# Altium integrated library mainboard.IntLib: 39 symbols
Pins are listed as number, name and electrical type; pins without a type are passive.

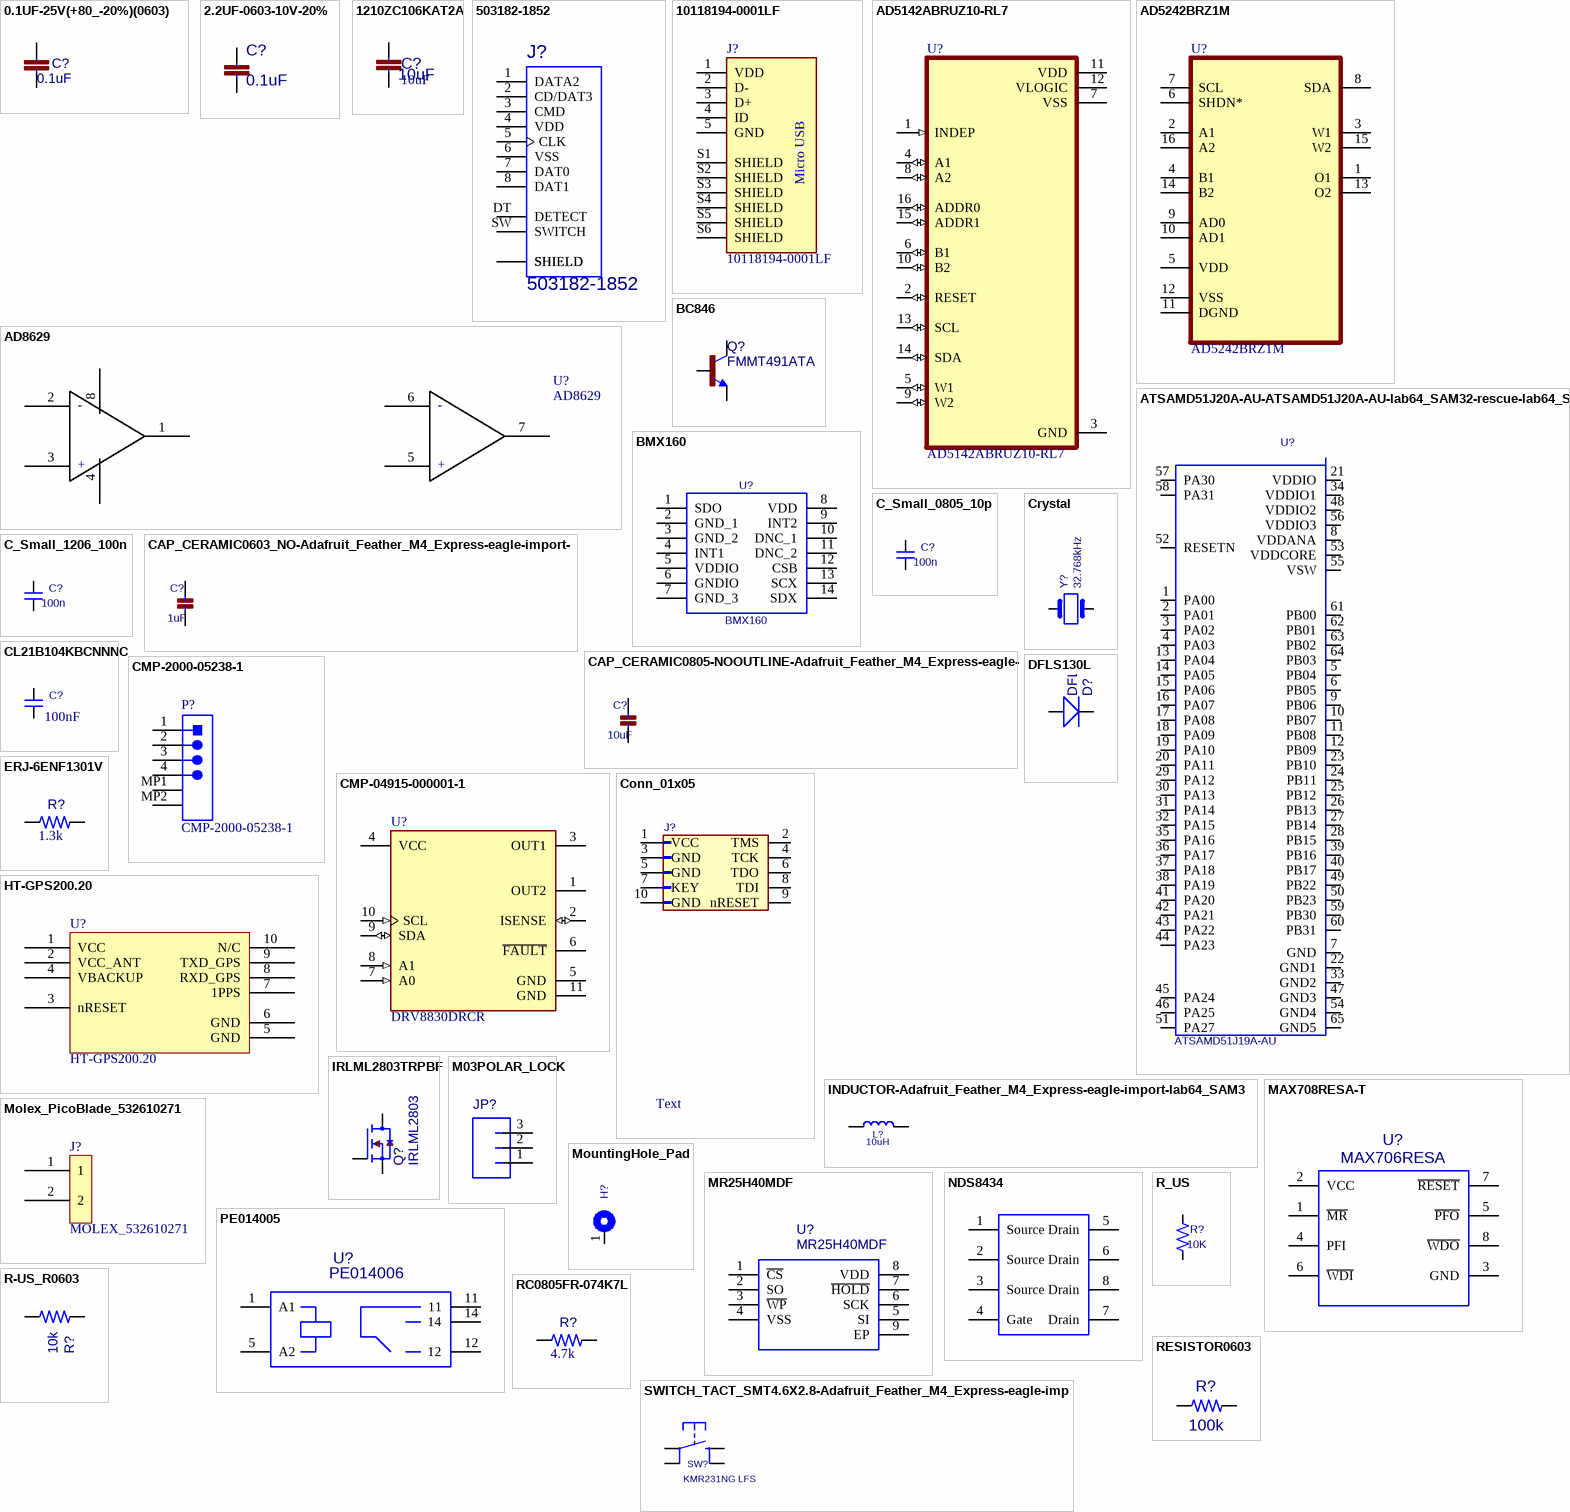
[diagram p0: symbols 0.1UF-25V(+80_-20%)(0603) to SWITCH_TACT_SMT4.6X2.8-Adafruit_Feather_M4_Express-eagle-import-lab64_SAM32-rescue-SAMD-10-rescue-SAM32-rescue]

## 0.1UF-25V(+80_-20%)(0603)
designator C?, comment 0.1uF
MPN: CL10B104KB8NNNL; Footprint: Capacitor_SMD:C_0603_1608Metric; Value: 0.1uF
footprint C_0603_1608Metric
pins: 1, 2

## 2.2UF-0603-10V-20%
designator C?, comment 0.1uF
MPN: CL10B104KO8NNNC; Value: 0.1uF; Footprint: Capacitor_SMD:C_0603_1608Metric
footprint C_0603_1608Metric
pins: 1, 2

## 1210ZC106KAT2A
designator C?, comment 10uF
MPN: 1210ZC106KAT2A; Footprint: Capacitor_SMD:C_0603_1608Metric; Value: 10uF
footprint C_0603_1608Metric
pins: 1, 2

## 503182-1852
designator J?
MPN: 5031821852; Value: 503182-1852; Footprint: mainboard:MOLEX_503182-1852
footprint MOLEX_503182-1852
pins: 1 DATA2, 2 CD/DAT3, 3 CMD, 4 VDD, 5 CLK, 6 VSS, 7 DAT0, 8 DAT1, DT DETECT, P1 SHIELD, P2 SHIELD, P3 SHIELD, P4 SHIELD, P5 SHIELD, SW SWITCH

## 10118194-0001LF
designator J?
Micro Usb, 2.0 Type b, Rcpt, Smt; Price: None; MPN: 10118194-0001LF; Availability: Unavailable; Value: *; Package: None
footprint AMPHENOL_10118194-0001LF
pins: 1 VDD, 2 D-, 3 D+, 4 ID, 5 GND, S1 SHIELD, S2 SHIELD, S3 SHIELD, S4 SHIELD, S5 SHIELD, S6 SHIELD
text: Micro USB

## AD5142ABRUZ10-RL7
designator U?
Digital Potentiometer 10kOhm 256POS Non-Volatile Linear/Log 16-Pin TSSOP T/R; MF: Analog Devices; Availability: In Stock; SnapEDA_Link: https://www.snapeda.com/parts/AD5142ABRUZ10-RL7/Analog+Devices/view-part/?ref=snap; Price: None; Package: TSSOP-16 Analog Devices; Value: *; Purchase-URL: https://pricing.snapeda.com/search/part/AD5142ABRUZ10-RL7/?ref=eda; Check_prices: https://www.snapeda.com/parts/AD5142ABRUZ10-RL7/Analog+Devices/view-part/?ref=eda; MPN: AD5142ABRUZ10-RL7
footprint SOP65P640X120-16N
pins: 1 INDEP (in), 2 RESET (io), 3 GND (power), 4 A1 (io), 5 W1 (io), 6 B1 (io), 7 VSS (power), 8 A2 (io), 9 W2 (io), 10 B2 (io), 11 VDD (power), 12 VLOGIC (power), 13 SCL (io), 14 SDA (io), 15 ADDR1 (io), 16 ADDR0 (io)

## AD5242BRZ1M
designator U?
Digital Potentiometer 1M Ohm 2 Circuit 256 Taps IÂ²C Interface 16-SOIC; MF: Analog Devices; Value: *; Digi-Key_Part_Number: AD5242BRZ1M-ND; Check_prices: https://www.snapeda.com/parts/AD5242BRZ1M/Analog+Devices+Inc./view-part/?ref=eda; Package: SOIC-16 Analog Devices; SnapEDA_Link: https://www.snapeda.com/parts/AD5242BRZ1M/Analog+Devices+Inc./view-part/?ref=snap; Purchase-URL: https://pricing.snapeda.com/search/part/AD5242BRZ1M/?ref=eda; MPN: AD5242BRZ1M
footprint SOIC127P600X175-16N
pins: 1 O1, 2 A1, 3 W1, 4 B1, 5 VDD (power), 6 SHDN*, 7 SCL, 8 SDA, 9 AD0, 10 AD1, 11 DGND, 12 VSS (power), 13 O2, 14 B2, 15 W2, 16 A2

## AD8629
designator U?
MPN: AD8629ARZ
footprint soic-8
pins: 1, 2, 3, 4, 5, 6, 7, 8
text: -; +

## ATSAMD51J20A-AU-ATSAMD51J20A-AU-lab64_SAM32-rescue-lab64_SAM32-rescue-SAMD-10-rescue-SAM32-rescue
designator U?, comment Proto: ATSAMD51J19A-AU  (hidden comment: 120MHZ 512KB Flash 64 TQFP)
Field4: 120MHZ 512KB Flash 64 TQFP PKG inTray 85CTemp, 64 TQFP 10x10x1mm TRAY; Field5: TQFP-64 Microchip; Value: 120MHZ 512KB Flash 64 TQFP; Footprint: custom-footprints:QFP50P1200X1200X120-64N; MPN: ATSAMD51J19A-AU
footprint QFP50P1200X1200X120-64N
footprint ATSAMD51J19A-MU
pins: 1 PA00, 2 PA01, 3 PA02, 4 PA03, 5 PB04, 6 PB05, 7 GND, 8 VDDANA, 9 PB06, 10 PB07, 11 PB08, 12 PB09, 13 PA04, 14 PA05, 15 PA06, 16 PA07, 17 PA08, 18 PA09, 19 PA10, 20 PA11, 21 VDDIO, 22 GND1, 23 PB10, 24 PB11, 25 PB12, 26 PB13, 27 PB14, 28 PB15, 29 PA12, 30 PA13, 31 PA14, 32 PA15, 33 GND2, 34 VDDIO1, 35 PA16, 36 PA17, 37 PA18, 38 PA19, 39 PB16, 40 PB17, 41 PA20, 42 PA21, 43 PA22, 44 PA23, 45 PA24, 46 PA25, 47 GND3, 48 VDDIO2, 49 PB22, 50 PB23, 51 PA27, 52 RESETN, 53 VDDCORE, 54 GND4, 55 VSW, 56 VDDIO3, 57 PA30, 58 PA31, 59 PB30, 60 PB31, 61 PB00, 62 PB01, 63 PB02, 64 PB03, 65 GND5

## BC846
designator Q?, comment FMMT491ATA
Proto: S8050; Value: FMMT491ATA; Footprint: mainboard:SOT23; MPN: FMMT491ATA
footprint SOT23
pins: 1 B, 2 E, 3 C

## BMX160
designator U?
Proto: BMX160; Value: BMX160; Footprint: custom-footprints:BMX160; MPN: BMX160
footprint BMX160
pins: 1 SDO, 2 GND_1, 3 GND_2, 4 INT1, 5 VDDIO, 6 GNDIO, 7 GND_3, 8 VDD, 9 INT2, 10 DNC_1, 11 DNC_2, 12 CSB, 13 SCX, 14 SDX

## C_Small_0805_10p
designator C?, comment value 100n  (hidden comment: 10p)
MPN: C0805C100J5GACTU; Footprint: Capacitor_SMD:C_0603_1608Metric; Supplier 1: Arrow Electronics; Supplier Part Number 1: C0805C100J5GACTU
footprint Resistor_0805
pins: 1, 2

## C_Small_1206_100n
designator C?, comment 100n
MPN: GRM31C5C1E104JA01L; Footprint: Capacitor_SMD:C_0603_1608Metric; Supplier 1: Arrow Electronics; Value: 100n; Supplier Part Number 1: GRM31C5C1E104JA01L
footprint Capacitor_1206
pins: 1, 2

## CAP_CERAMIC0603_NO-Adafruit_Feather_M4_Express-eagle-import-lab64_SAM32-rescue-SAMD-10-rescue-SAM32-rescue
designator C?, comment 1uF
MPN: CL10A105KB8NNNC; Value: 1uF; Footprint: Capacitor_SMD:C_0603_1608Metric
footprint C_0603_1608Metric
pins: 1, 2

## CAP_CERAMIC0805-NOOUTLINE-Adafruit_Feather_M4_Express-eagle-import-lab64_SAM32-rescue-SAMD-10-rescue-SAM32-rescue
designator C?, comment 10uF
MPN: CL10A106MP8NNNC; Value: 10uF; Footprint: Capacitor_SMD:C_0603_1608Metric
footprint C_0603_1608Metric
pins: 1, 2

## CL21B104KBCNNNC
designator C?, comment 100nF
MPN: CL21B104KBCNNNC
footprint Resistor_0805
pins: 1, 2

## CMP-2000-05238-1
designator P?
Male Header, Pitch 1.25 mm, 1 x 4 Position, Height 3.4 mm, -40 to 85 degC, RoHS, Tape and Reel; MPN: 0533984004; Manufacturer: Molex; Manufacturer Part Number: 53261-0471; Supplier 1: Digi-Key
footprint MOLEX-53261-0471_V (SMD, 4-Leads, Body 10.15x5.2mm, Pitch 1.25mm)
pins: 1, 2, 3, 4, MP1, MP2

## CMP-04915-000001-1
designator U?, comment DRV8830DRCR
IC MTRDRV BIPLR 2.75-6.8V 10VSON; Manufacturer: Texas Instruments; Switching Frequency: 44.5kHz; Standoff Height: 0mm; Nominal Supply Current: 1.4mA; Max Junction Temp: +150°C; Number Of Outputs: 1; Min Supply Voltage: 2.75V; Motor Type: Brushed; Max Supply Voltage: 6.8V; Output Current: 1A; Automotive: No; Temperature: -40°C to +85°C; ComponentLink2Description: Datasheet; Package: DRC0010J; Octopart: https://octopart.com/drv8830drcr-texas+instruments-21221812; Device Class L3: Motor Drivers; Height: 1mm; Lead Free: Yes; Device Class L2: Power Management ICs; Mouser Description: 1A Low Voltage Brushed DC Motor Driver with Speed Regulation (I2C Ctrl) 10-VSON -40 to 85; MPN: DRV8830DRCR; Temperature Range High: +85°C; ComponentLink2URL: http://www.ti.com/lit/ds/symlink/drv8830.pdf; Category: IC; RoHS: TRUE; Device Class L1: Integrated Circuits (ICs); Digikey Description: IC MTRDRV BIPLR 2.75-6.8V 10VSON; Temperature Range Low: -40°C; Manufacturer Part Number: DRV8830DRCR
footprint FP-DRC0010J-MFG
pins: 1 OUT2 (power), 2 ISENSE (io), 3 OUT1 (power), 4 VCC (power), 5 GND (power), 6 ~{FAULT} (oc), 7 A0 (in), 8 A1 (in), 9 SDA (io), 10 SCL (in), 11 GND (power)

## Conn_01x05
designator J?  (value not drawn)  (no BOM)
Value: Conn_01x05; Footprint: Connector_PinHeader_2.54mm:PinHeader_1x05_P2.54mm_Vertical
footprint PinHeader_1x05_P2.54mm_Vertical
pins: 1 VCC, 2 TMS, 3 GND, 4 TCK, 5 GND, 6 TDO, 7 KEY, 8 TDI, 9 nRESET, 10 GND
text: Text

## Crystal
designator Y?, comment 32.768kHz
Proto: ABS07-32.768KHZ-T; Value: 32.768kHz; Footprint: Crystal:Crystal_SMD_3215-2Pin_3.2x1.5mm; MPN: ABS07-32.768KHZ-T
footprint Crystal_SMD_3215-2Pin_3.2x1.5mm
pins: 1, 2

## DFLS130L
designator D?, comment value DFLS130L  (hidden comment: SBR2A40P1Q-7)
Proto: DFLS130L; Footprint: mainboard:PWRDI-123; MPN: DFLS130L
footprint PWRDI-123
pins: A, C

## ERJ-6ENF1301V
designator R?, comment 1.3k
MPN: ERJ-6ENF1301V
footprint L_0805_2012Metric_Pad1.15x1.40mm_HandSolder
pins: 1, 2

## HT-GPS200.20
designator U?
HT-GPS200.20 GNSS module
footprint HT-GPS200.20 (Footprint not found)
pins: 1 VCC, 2 VCC_ANT, 3 nRESET, 4 VBACKUP, 5 GND, 6 GND, 7 1PPS, 8 RXD_GPS, 9 TXD_GPS, 10 N/C

## INDUCTOR-Adafruit_Feather_M4_Express-eagle-import-lab64_SAM32-rescue-SAMD-10-rescue-SAM32-rescue
designator L?, comment 10uH
MPN: LBR2012T100K; Value: 10uH; Footprint: Inductor_SMD:L_0805_2012Metric_Pad1.15x1.40mm_HandSolder
footprint L_0805_2012Metric_Pad1.15x1.40mm_HandSolder
pins: 1, 2

## IRLML2803TRPBF
designator Q?, comment IRLML2803
Proto: 2302; Value: IRLML2803; Footprint: mainboard:SOT-23; MPN: IRLML2803
footprint SOT-23
pins: 1 G, 2 S, 3 D

## M03POLAR_LOCK
designator JP?, comment Conn_01x03  (value not drawn)
Value: Conn_01x03; Footprint: mainboard:MOLEX-1X3_LOCK
footprint MOLEX-1X3_LOCK
pins: 1, 2, 3

## MAX708RESA-T
designator U?, comment MAX706RESA
Proto: MAX706RESA; Value: MAX706RESA; Footprint: Package_SO:SO-8_3.9x4.9mm_P1.27mm; MPN: MAX706RESA
footprint SO-8_3.9x4.9mm_P1.27mm
pins: 1 ~{MR}, 2 VCC, 3 GND, 4 PFI, 5 ~{PFO}, 6 ~{WDI}, 7 ~{RESET}, 8 ~{WDO}

## Molex_PicoBlade_532610271
designator J?, comment MOLEX_532610271
MPN: 532610271
footprint Molex_PicoBlade_532610271
pins: 1, 2

## MountingHole_Pad
designator H?  (value not drawn)  (no BOM)
Value: MountingHole_Pad; Footprint: MountingHole:MountingHole_3.2mm_M3_DIN965_Pad
footprint MountingHole_3.2mm_M3_DIN965_Pad
pins: 1

## MR25H40MDF
designator U?
Proto: W25Q80DVSNIG; Value: MR25H40MDF; Footprint: mainboard:SON127P600X500X90-9N; MPN: MR25H40MDF
footprint SON127P600X500X90-9N
pins: 1 ~{CS}, 2 SO, 3 ~{WP}, 4 VSS, 5 SI, 6 SCK, 7 ~{HOLD}, 8 VDD, 9 EP

## NDS8434
designator U?  (value not drawn)
MPN: IRF7404TRPBF; Proto: DMP2022LSS-13; Value: NDS8434; Footprint: custom-footprints:NDS8434
footprint NDS8434
pins: 1 Source, 2 Source, 3 Source, 4 Gate, 5 Drain, 6 Drain, 7 Drain, 8 Drain

## PE014005
designator U?, comment PE014006
MPN: PE014006 TE; Proto: JE-109D GOODSKY; Value: PE014006; Footprint: mainboard:RELAY5-PE_CO
footprint RELAY5-PE_CO
pins: 1 A1, 5 A2, 11, 12, 14

## R-US_R0603
designator R?, comment 10k
MPN: RNCP0603FTD10K0; Value: 10k; Footprint: Resistor_SMD:R_0603_1608Metric
footprint R_0603_1608Metric
pins: 1, 2

## R_US
designator R?, comment 10K
MPN: CRGCQ0603J10K; Value: 10K; Footprint: Resistor_SMD:R_0603_1608Metric
footprint R_0603_1608Metric
pins: 1, 2

## RC0805FR-074K7L
designator R?, comment 4.7k
MPN: RC0805FR-074K7L
footprint L_0805_2012Metric_Pad1.15x1.40mm_HandSolder
pins: 1, 2

## RESISTOR0603
designator R?, comment 100k
MPN: RC0603JR-07100KL; Value: 100k; Footprint: Resistor_SMD:R_0603_1608Metric
footprint R_0603_1608Metric
pins: 1, 2

## SWITCH_TACT_SMT4.6X2.8-Adafruit_Feather_M4_Express-eagle-import-lab64_SAM32-rescue-SAMD-10-rescue-SAM32-rescue
designator SW?, comment KMR231NG LFS
Value: KMR231NG LFS; Footprint: Adafruit Feather M4 Express:BTN_KMR2_4.6X2.8; MPN: KMR231NG LFS
footprint BTN_KMR2_4.6X2.8
pins: A P, A' P1, B S, B' S1

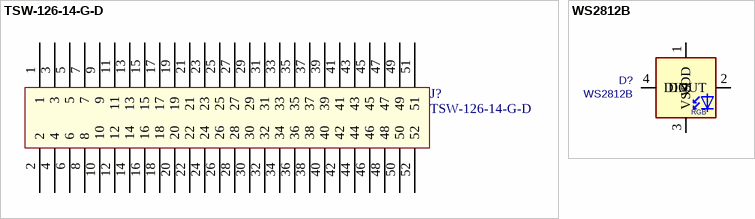
[diagram p1: symbols TSW-126-14-G-D to WS2812B]

## TSW-126-14-G-D
designator J?
MPN: TSW-126-14-G-D
footprint SAMTEC_TSW-126-14-G-D
pins: 1, 2, 3, 4, 5, 6, 7, 8, 9, 10, 11, 12, 13, 14, 15, 16, 17, 18, 19, 20, 21, 22, 23, 24, 25, 26, 27, 28, 29, 30, 31, 32, 33, 34, 35, 36, 37, 38, 39, 40, 41, 42, 43, 44, 45, 46, 47, 48, 49, 50, 51, 52

## WS2812B
designator D?
MPN: COM-16347; Proto: WS2812B; Value: WS2812B; Footprint: LED_SMD:LED_WS2812B_PLCC4_5.0x5.0mm_P3.2mm
footprint LED_WS2812B_PLCC4_5.0x5.0mm_P3.2mm
pins: 1 VDD, 2 DOUT, 3 VSS, 4 DIN
text: RGB